# EAGLE library part TRADFRI (library tradfri)
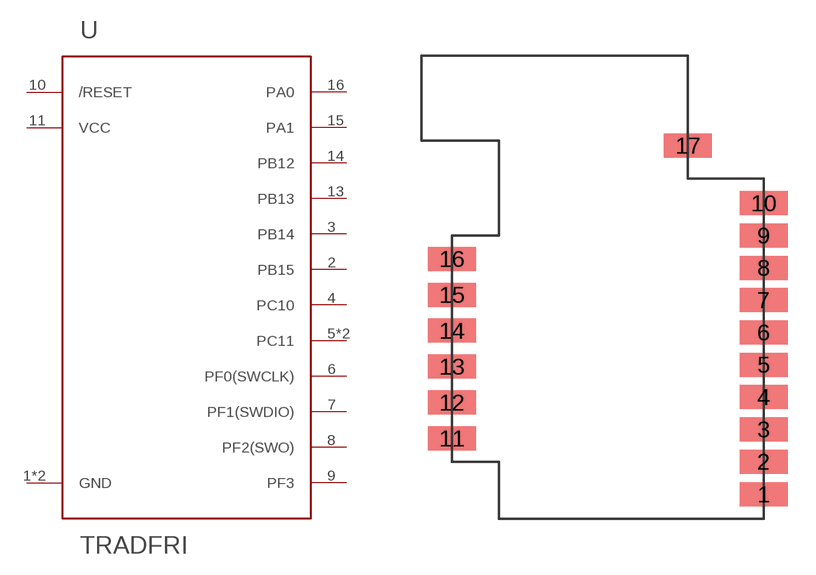
[diagram p0: symbol with the pads of TRADFRI; footprint TRADFRI]

Designator prefix U

## TRADFRISMD  [TRADFRI]
1  GND
2  PB15
3  PB14
4  PC10
5  PC11
6  PF0(SWCLK)
7  PF1(SWDIO)
8  PF2(SWO)
9  PF3
10  /RESET
11  VCC
12  GND
13  PB13
14  PB12
15  PA1
16  PA0
17  PC11

## Footprint TRADFRI (pad centres in mm)
smd 2.54 x 1.27: 1 9.05,-10.96; 2 9.05,-9.23; 3 9.05,-7.52; 4 9.05,-5.81; 5 9.05,-4.1; 6 9.05,-2.39; 7 9.05,-0.68; 8 9.05,1.03; 9 9.05,2.74; 10 9.05,4.45; 11 -7.45,-8; 12 -7.45,-6.1; 13 -7.45,-4.2; 14 -7.45,-2.3; 15 -7.45,-0.4; 16 -7.45,1.5; 17 5.05,7.5